# Altium footprint library TFC-105-X2-XX-D.PcbLib: 1 footprints
Each footprint in its own frame and in the unit in brackets; x right, y up, seen from the top. Pads: shape width x height; smd on the part's side, far side on the other; paste and mask are expansions set on the pad; w line width, h text height; cw(c..) or ccw(c..) is an arc to the next point about the centre after c.
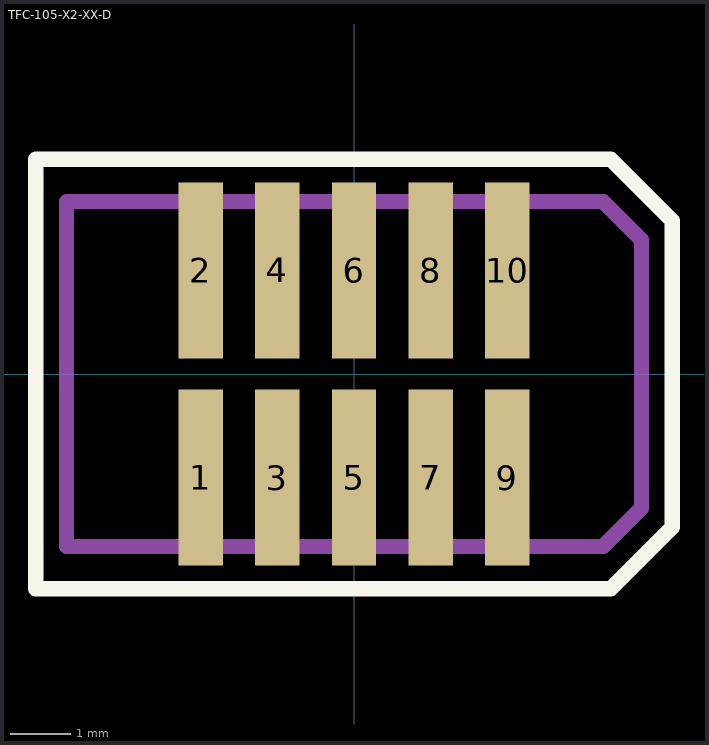
[diagram p0: the footprint, top view; thin cyan lines are the x and y axes]

## TFC-105-X2-XX-D [mil]
pads (10):
  rect 29x115 smd mask+2: 1(-100,-67.5) 2(-100,67.5) 3(-50,-67.5) 4(-50,67.5) 5(0,-67.5) 6(0,67.5) 7(50,-67.5) 8(50,67.5) 9(100,-67.5) 10(100,67.5)
Top Overlay:
  lines w10: -207.5,-140 -207.5,140 167.5,140 207.5,100 207.5,-100 167.5,-140 -207.5,-140
Mechanical 1:
  lines w10: -187.5,-112.5 -187.5,112.5 162.5,112.5 187.5,87.5 187.5,-87.5 162.5,-112.5 -187.5,-112.5
  text "J1" at -17.57,-188 h30
3D body "TFC-105-02-F-D.stp": height 220, standoff -6, extent -192.49,-122.49 182.51,112.51